# Altium footprint library Esp32S.PcbLib: 2 footprints
Each footprint in its own frame and in the unit in brackets; x right, y up, seen from the top. Pads: shape width x height; smd on the part's side, far side on the other; paste and mask are expansions set on the pad; w line width, h text height; cw(c..) or ccw(c..) is an arc to the next point about the centre after c.
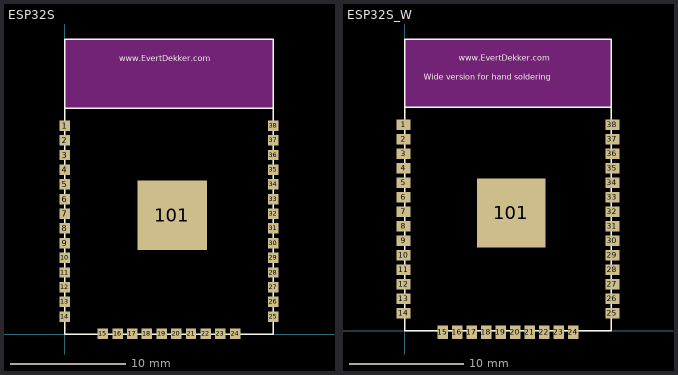
[diagram p0: the footprints below, top view; thin cyan lines are the x and y axes]

## ESP32S [mm] "ESP32S-Module"
height 2.8
pads (39):
  rect 0.9x0.9 smd: 1(0,18.034) 2(0,16.764) 3(0,15.494) 4(0,14.224) 5(0,12.954) 6(0,11.684) 7(0,10.414) 8(0,9.144) 9(0,7.874) 10(0,6.604) 11(0,5.334) 12(0,4.064) 13(0,2.794) 14(0,1.524) 15(3.3,0.034) 16(4.57,0.034) 17(5.84,0.034) 18(7.11,0.034) 19(8.38,0.034) 20(9.65,0.034) 21(10.92,0.034) 22(12.19,0.034) 23(13.46,0.034) 24(14.73,0.034) 25(18.034,1.524) 26(18.034,2.794) 27(18.034,4.064) 28(18.034,5.334) 29(18.034,6.604) 30(18.034,7.874) 31(18.034,9.144) 32(18.034,10.414) 33(18.034,11.684) 34(18.034,12.954) 35(18.034,14.224) 36(18.034,15.494) 37(18.034,16.764) 38(18.034,18.034)
  rect 6x6 smd: 101(9.3,10.3)
Top Overlay:
  lines w0.127: 0,19.558 18.034,19.558 ; 0,0 0,25.527 18.034,25.527 18.034,0 0,0
  text "www.EvertDekker.com" at 4.699,23.622 h0.5
Keep-Out Layer:
  rectangle: 0,19.558 18.034,25.527
3D body: height 0.8, standoff 0, extent 0,0 18.034,25.527
3D body: height 2, standoff 0.8, extent 0.635,0.635 17.526,19.558

## ESP32S_W [mm] "Esp32S Module wide for hand soldering"
pads (39):
  rect 1.2x0.9 smd: 1(-0.127,18.034) 2(-0.127,16.764) 3(-0.127,15.494) 4(-0.127,14.224) 5(-0.127,12.954) 6(-0.127,11.684) 7(-0.127,10.414) 8(-0.127,9.144) 9(-0.127,7.874) 10(-0.127,6.604) 11(-0.127,5.334) 12(-0.127,4.064) 13(-0.127,2.794) 14(-0.127,1.524) 25(18.161,1.524) 26(18.161,2.794) 27(18.161,4.064) 28(18.161,5.334) 29(18.161,6.604) 30(18.161,7.874) 31(18.161,9.144) 32(18.161,10.414) 33(18.161,11.684) 34(18.161,12.954) 35(18.161,14.224) 36(18.161,15.494) 37(18.161,16.764) 38(18.161,18.034)
  rect 0.9x1.2 smd: 15(3.302,-0.127) 16(4.57,-0.127) 17(5.84,-0.127) 18(7.11,-0.127) 19(8.38,-0.127) 20(9.65,-0.127) 21(10.92,-0.127) 22(12.19,-0.127) 23(13.46,-0.127) 24(14.73,-0.127)
  rect 6x6 smd: 101(9.3,10.3)
Top Overlay:
  lines w0.127: 0,19.558 18.034,19.558 ; 0,0 18.034,0 18.034,25.527 0,25.527 0,0
  text "www.EvertDekker.com" at 4.699,23.622 h0.5
  text "Wide version for hand soldering" at 1.651,21.971 h0.5
Keep-Out Layer:
  rectangle: 0,19.558 18.034,25.527
3D body: height 2, standoff 0.8, extent 0.635,0.635 17.526,19.558
3D body: height 0.8, standoff 0, extent 0,0 18.034,25.527